# Altium footprint library OST_OSTTF020161.PcbLib: 1 footprints
Each footprint in its own frame and in the unit in brackets; x right, y up, seen from the top. Pads: shape width x height; smd on the part's side, far side on the other; paste and mask are expansions set on the pad; w line width, h text height; cw(c..) or ccw(c..) is an arc to the next point about the centre after c.
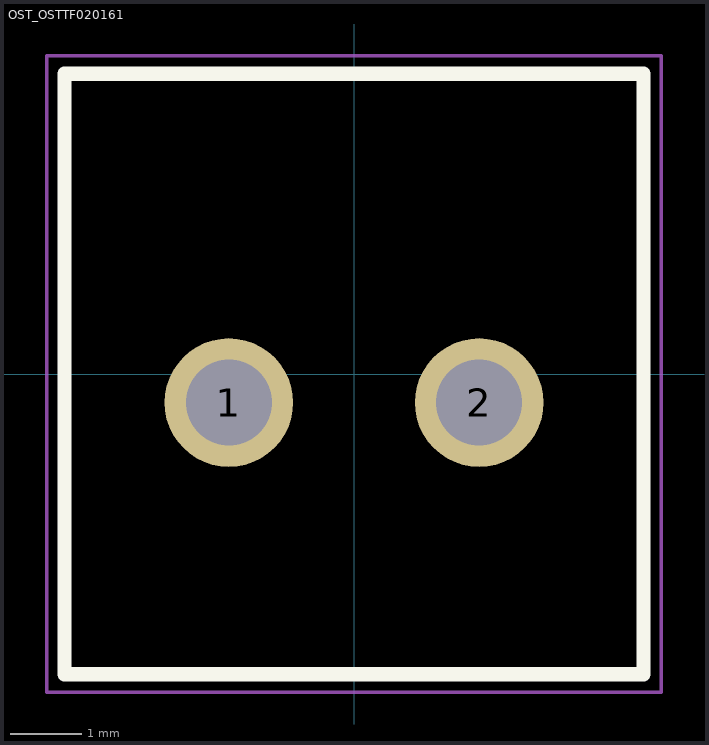
[diagram p0: the footprint, top view; thin cyan lines are the x and y axes]

## OST_OSTTF020161 [mm]
pads (2):
  round 1.8 hole 1.2: 1(-1.75,-0.4) 2(1.75,-0.4)
Top Overlay:
  lines w0.2: -4.05,-4.2 -4.05,4.2 4.05,4.2 4.05,-4.2 -4.05,-4.2
Courtyard Top:
  lines w0.05: -4.3,-4.45 4.3,-4.45 4.3,4.45 -4.3,4.45 -4.3,-4.45
3D body "step_temp.STEP": height 7, standoff -3.8, extent -3.75,-4.25 4.25,4.15